# Altium integrated library IMU.IntLib: 1 symbol
Pins are listed as number, name and electrical type; pins without a type are passive.

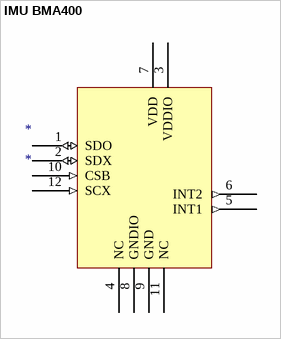
[diagram p0: symbol IMU BMA400]

## IMU BMA400
designator *
footprint LGA-12
pins: 1 SDO (io), 2 SDX (io), 3 VDDIO (power), 4 NC, 5 INT1 (out), 6 INT2 (out), 7 VDD (power), 8 GNDIO (power), 9 GND (power), 10 CSB (in), 11 NC, 12 SCX (in)